# Altium schematic symbol library Alcetronics_Devices.SchLib: 22 symbols
Pins are listed as number, name and electrical type; pins without a type are passive.

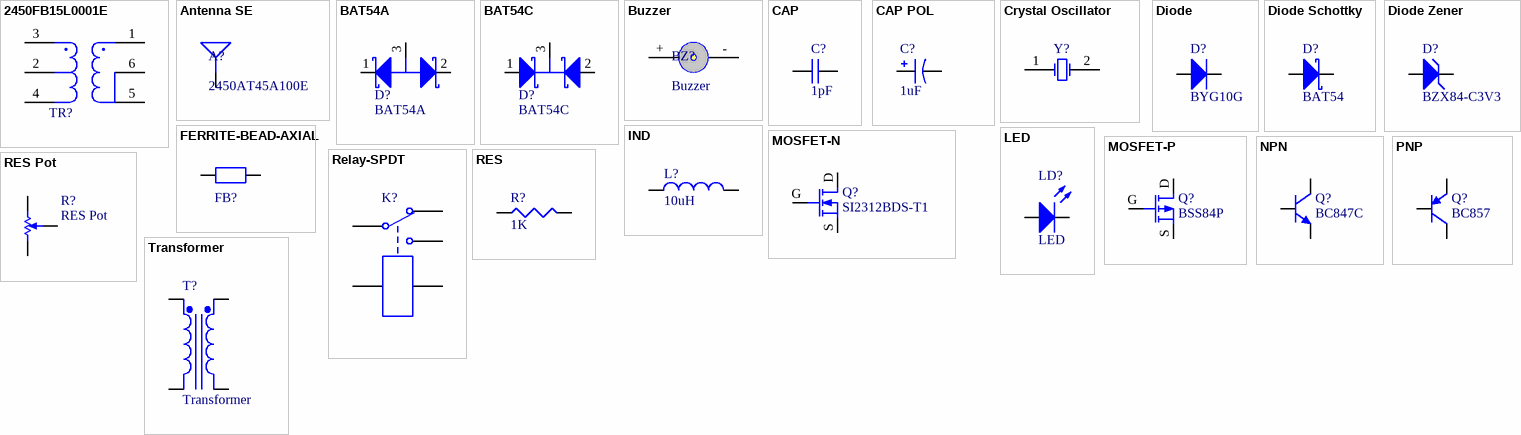
[diagram p0: symbols 2450FB15L0001E to Transformer]

## 2450FB15L0001E
designator TR?  (value not drawn)
FILTER BALUN ATMEL 2.45GHZ; Owner: Rui Rebelo; Sub-Type: Transformer; Type: Electrical & Mechanical; Assembly: INS; Creation Date: 2002-07-25; Status: New
footprint 0805@BALUN
pins: 1 Unbalanced Port, 2 DC Feed + RF GND, 3 Balanced Port, 4 Balanced Port, 5 Ground, 6 Ground

## Antenna SE
designator A?, comment 2450AT45A100E
ANTENNA
footprint 2450AT45A100E
pins: 1

## BAT54A
designator D?
Dual Schottky Barrier Diode; Assembly: INS; Owner: Luis Alves; Creation Date: 2007-10-11; Status: New; Sub-Type: Schottky; Type: Diode
footprint SOT-23
pins: 1 A1, 2 A2, 3 K

## BAT54C
designator D?
Dual Schottky Barrier Diode; Assembly: INS; Owner: Luis Alves; Creation Date: 2007-10-11; Status: New; Sub-Type: Schottky; Type: Diode
footprint SOT-23
pins: 1 A1, 2 A2, 3 K

## Buzzer
designator BZ?
Transductor
footprint Buzzer_12mm (12mm dia; holes 6.5mm)
pins: +, -

## CAP
designator C?, comment 1pF
Capacitor; Owner: Nuno Brum; Sub-Type: Ceramic; Assembly: INS; Maximum Voltage: *; Creation Date: 2005-04-28; Status: Valid; Validation date: 2006-05-15; Type: Capacitor
simulation model CAP (Capacitor)
signal-integrity model Cap
footprint 1210 (2-pin 1210 outline)
footprint 0805
footprint 0402
footprint 1206
footprint 0603
footprint RAD-0.1 (Radial Cap, Thru-Hole; 2 Leads; 0.1 in Pin Spacing)
footprint RAD-0.4 (Radial Cap, Thru-Hole; 2 Leads; 0.4 in Pin Spacing)
footprint RAD-0.3 (Radial Cap, Thru-Hole; 2 Leads; 0.3 in Pin Spacing)
footprint RAD-0.2 (Radial Cap, Thru-Hole; 2 Leads; 0.2 in Pin Spacing)
pins: 1, 2

## CAP POL
designator C?, comment 1uF
Polarized Capacitor; Owner: Nuno Brum; Sub-Type: Tantalum; Assembly: INS; Validation date: 2006-05-15; Creation Date: 2005-04-28; Status: Valid; Type: Capacitor
simulation model CAP (Capacitor)
signal-integrity model Cap Pol
footprint CASE-A
footprint CASE-B; pin to pad N>2
footprint CASE-C; pin to pad N>2
footprint CASE-D; pin to pad N>2 P>1
footprint RADIAL-5MM
footprint CASE-E
footprint RADIAL-2.5MM
footprint RADIAL-3.5MM
footprint RADIAL-7.5MM
footprint RADIAL-G
footprint RADIAL-10MM
pins: 1 P, 2 N
1 alternate drawing of the same symbol

## Crystal Oscillator
designator Y?
Crystal Oscillator; Published: 17-Jul-2002; DatasheetDocument: 18-Apr-2000; PackageReference: CSM-7; Publisher: Altium Limited; ComponentLink1Description: Manufacturer Link; ComponentLink1URL: http://www.ecsxtal.com/; ComponentLink2Description: Datasheet; ComponentLink2URL: http://www.ecsxtal.com/pdf3/CSM_7.pdf
footprint CSM-7 (Quartz Crystal, SM; 2 Leads; Body 11.4 x 4.8 x 5 mm (LxWxH))
simulation model XTAL (SUBCKT)
footprint ECX-3A (Quartz Crystal, SM; 4 Leads; Body 13 x 5 x 5 mm (LxWxH))
footprint ECX-3M (Quartz Crystal, SM; 4 Leads; Body 13 x 4.7 x 4.2 mm (LxWxH))
footprint ECX-3S (Quartz Crystal, SM; 4 Leads; Body 12.5 x 4.6 x 3.7 mm (LxWxH))
footprint HC-49U (Quartz Crystal, Thru-Hole; 2 Leads; Body 11.35 x 4.65 x 13.46 mm (LxWxH max))
footprint HC-49US (Quartz Crystal, Thru-Hole; 3 Leads; Body 11.35 x 5 x 3.5 mm (LxWxH max))
footprint XTAL-SMD-4.9x1.8
footprint HC49/4HSMX
pins: 1 OSC1, 2 OSC2

## Diode
designator D?, comment BYG10G
Vishay Standard Avalanche Sinterglass Diode; Owner: Nuno Brum; Sub-Type: Generic; Assembly: INS; Validation date: 2006-05-15; Creation Date: 2001-06-05; Status: Valid; Model: BYG10G; Type: Diode
footprint DO-214AC
signal-integrity model Diode
simulation model BYG10G (Vishay Standard Avalanche Sinterglass Diode)
footprint 0805@DIODE
simulation model MCL4148 (Model Description)
simulation model DIODE (Model Description)
footprint SOD-123-D (SOD-123 Diode Footprint)
footprint DO-214BA (Small Signal Schottky Diode)
footprint DO-204AR (Diode, Axial; Body 9.5 x 6.4 mm (LxDia. max), Lead Dia. 1.32 mm (max))
footprint DO-214AB (Small Signal Schottky Diode)
footprint SOD-323
pins: A, K

## Diode Schottky
designator D?, comment BAT54
Small Signal Schottky Diode; Owner: Nuno Brum; Assembly: INS; Validation date: 2006-05-15; Creation Date: 2001-06-05; Sub-Type: Schottky; Status: Valid; Model: BAT54; Type: Diode
simulation model BAT54 (Diode)
signal-integrity model D Schottky
footprint DO-214AC
footprint SOT-23@AK (SOT-23 (1-Anode, 2-NC, 3-Cathode))
footprint SOD-123
footprint SOD-323
footprint DO-204AR (Diode, Axial; Body 9.5 x 6.4 mm (LxDia. max), Lead Dia. 1.32 mm (max))
footprint DO-214AB (Small Signal Schottky Diode)
pins: A, K

## Diode Zener
designator D?, comment BZX84-C3V3
Voltage Regulator Zener Diode 3V3; Owner: Nuno Brum; Assembly: INS; Validation date: 2006-05-15; Creation Date: 2001-06-05; Sub-Type: Zener; Status: Valid; Model: BZX84-C3V3; Type: Diode
simulation model BZX84-C3V3 (Diode)
signal-integrity model D Zener
footprint DO-214AC
footprint SOT-23@AK (SOT-23 (1-Anode, 2-NC, 3-Cathode))
footprint 0805@DIODE
pins: A, K

## FERRITE-BEAD-AXIAL
designator FB?, comment 150Z_100MHz  (value not drawn)
Ferrite bead; Sub-Type: Filter; Owner: Sergio Pires; Type: Electrical & Mechanical; Assembly: INS; Creation Date: 2005-10-20; Status: New
footprint 0805
footprint 1806
footprint 0201
pins: 1, 2

## IND
designator L?, comment 10uH
Inductor; Owner: Nuno Brum; Sub-Type: Generic; Assembly: INS; Validation date: 2006-05-15; Creation Date: 2002-07-17; Status: Valid; Type: Inductor
footprint 0603
footprint 0805
simulation model INDUCTOR (Inductor)
signal-integrity model Inductor
footprint 1812
footprint 1210 (2-pin 1210 outline)
footprint AXIAL-0.6 (Axial L=15.24mm(0.6in) H=0.85mm)
footprint 1606
footprint 12X12 (Package 12x12mm)
footprint 6X6
footprint 7X7 (Package 7x7mm)
footprint RADIAL-3MM
footprint AXIAL-1.4
footprint 0201
footprint 0402
pins: 1, 2

## LED
designator LD?
Light emitting diode; Owner: Nuno Brum; Assembly: INS; Creation Date: 2001-06-05; Sub-Type: LED; Status: Valid; Validation date: 2006-05-15; Model: LED; Type: Diode
simulation model LED2 (Diode)
footprint LEDSMD
footprint 0805@DIODE
footprint LED-3MM (LED 3mm)
footprint 0603@DIODE
footprint LED-3MM (LED 3mm)
pins: A, K

## MOSFET-N
designator Q?, comment SI2312BDS-T1
N-Channel Logic Level Enhancement Mode Field Effect Transistor; Owner: Nuno Brum; Sub-Type: MOSFET; Assembly: INS; Creation Date: 2001-06-05; Status: Valid; Model: SI2312BDS-T1; Type: Transistor
simulation model NMOS (MOSFET-N)
footprint SOT-23@GSD (SOT-23 (1-Gate , 2-Source, 3-Drain)); pin to pad 2>3 3>2
simulation model BSS138 (Model Description)
footprint SC70-6@DDGSDD
footprint SOT-223@GDSD (Small Outline for FET Transistor (1-G, 2-D, 3-S, 4-D))
pins: D, G, S
1 alternate drawing of the same symbol

## MOSFET-P
designator Q?, comment BSS84P
P-Channel Logic Level Enhancement Mode Field Effect Transistor; Owner: Nuno Brum; Sub-Type: MOSFET; Assembly: INS; Validation date: 2006-05-15; Creation Date: 2001-06-05; Status: Valid; Model: BSS84P; Type: Transistor
footprint SOT-23@GSD (SOT-23 (1-Gate , 2-Source, 3-Drain))
simulation model PMOS (MOSFET-P)
simulation model BSS84P (Model Description)
footprint SOT-223@GDSD (Small Outline for FET Transistor (1-G, 2-D, 3-S, 4-D))
pins: D, G, S
1 alternate drawing of the same symbol

## NPN
designator Q?, comment BC847C
NPN General Purpose Transistor; Owner: Nuno Brum; Sub-Type: Bipolar; Assembly: INS; Validation date: 2006-05-15; Creation Date: 2001-06-05; Status: Valid; Model: BC847C; Type: Transistor
simulation model NPN
signal-integrity model NPN
simulation model BC847C (Model Description)
footprint SOT-223@BCEC (Small Outline for Bipolar Transistor (1-B, 2-C, 3-E, 4-C))
simulation model ZTX849 (Model Description)
footprint TO-220@BCE-H
footprint TO-220@BCE-V
footprint SOT-23@BEC
pins: B, C, E

## PNP
designator Q?, comment BC857
PNP General Purpose Transistor; Sub-Type: Bipolar; Owner: Nuno Brum; Assembly: INS; Creation Date: 2001-06-05; Status: Valid; Validation date: 2006-05-15; Model: BC857; Type: Transistor
simulation model PNP
signal-integrity model PNP
simulation model BC857 (Model Description)
footprint SOT-223@BCEC (Small Outline for Bipolar Transistor (1-B, 2-C, 3-E, 4-C))
footprint TO-220@BCE-V
footprint TO-220@BCE-H
footprint SOT-23@BEC
pins: B, C, E

## Relay-SPDT
designator K?
Single-Pole Dual-Throw Relay; Published: 24-Mar-1999; LatestRevisionDate: 17-Jul-2002; LatestRevisionNote: Re-released for DXP Platform.; PackageReference: MODULE5B; Publisher: Altium Limited
footprint RELAY_1C
simulation model SPDTRELAY (Spice Subcircuit)
pins: 1, 2, 3, 4, 5

## RES
designator R?, comment 1K
Resistor; Owner: Nuno Brum; Sub-Type: Generic; Assembly: INS; Validation date: 2006-05-15; Creation Date: 2002-07-17; Status: Valid; Power: *; Type: Resistor
simulation model RESISTOR (Resistor)
signal-integrity model Res
footprint 0805
footprint 0402
footprint 2512
footprint 1206
footprint 2010
footprint AXIAL-0.6 (Axial L=15.24mm(0.6in) H=0.85mm)
footprint AXIAL-0.4 (Resistor; 2 Leads)
footprint AXIAL-0.3 (Resistor; 2 Leads)
footprint 0603
footprint AXIAL-0.5 (500mil between pads, 340mil body length and 100mil body width)
footprint AXIAL-0.8 (800mil between pads, 600mil body length and 220mil body width)
footprint AXIAL-1.1 (1100mil between pads, 1070mil body length and 320mil body width)
footprint 1218
pins: 1, 2
2 alternate drawings of the same symbol

## RES Pot
designator R?
Square Trimming Potentiometer; Published: 17-Dec-2003; DatasheetVersion: Oct-2003; PackageReference: POT4MM-2; Publisher: Altium Limited; PackageDescription: Square Trimming Potentiometer; ComponentLink1Description: Manufacturer Link; ComponentLink1URL: http://bourns.com/2/search.html
footprint POT4MM-2 (Square Trimming Potentiometer)
pins: CCW -, CW +, W
1 alternate drawing of the same symbol

## Transformer
designator T?
Published: 8-Jun-2000; LatestRevisionDate: 17-Jul-2002; LatestRevisionNote: Re-released for DXP Platform.; PackageReference: TRF_4; Publisher: Altium Limited; PackageDescription: Transformer; 4 Leads
footprint TR_4 (Transformer; 4 Leads)
simulation model IDEALTRANS (Spice Subcircuit)
pins: 1 Pri+, 2 Pri-, 3 Sec+, 4 Sec-